# Altium integrated library Microneedle_Lib.IntLib: 3 symbols
Pins are listed as number, name and electrical type; pins without a type are passive.

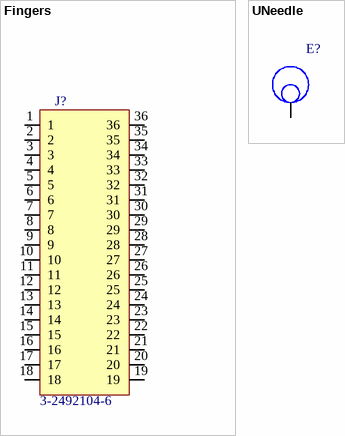
[diagram p0: symbols Fingers to UNeedle]

## Fingers
designator J?, comment 3-2492104-6
XXX - Description - Package; GRAMS Lib Spec: 2.7
footprint Fingers
pins: 1, 2, 3, 4, 5, 6, 7, 8, 9, 10, 11, 12, 13, 14, 15, 16, 17, 18, 19, 20, 21, 22, 23, 24, 25, 26, 27, 28, 29, 30, 31, 32, 33, 34, 35, 36

## UNeedle
designator E?  (value not drawn)
footprint UNeedle
pins: 1


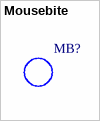
[diagram p1: symbol Mousebite]

## Mousebite
designator MB?, comment Part Number  (value not drawn)
Mousebite, 0.5 mm hole 5x, 0.3 mm spacing, 1.5 mm tool route; GRAMS Lib Spec: 2.7
footprint Mousebite (0.5 mm hole, 0.3 mm spacing, 5x, 1.5 mm diameter)